# Altium footprint library 11-Pcblib_Logic.PcbLib: 7 footprints
Each footprint in its own frame and in the unit in brackets; x right, y up, seen from the top. Pads: shape width x height; smd on the part's side, far side on the other; paste and mask are expansions set on the pad; w line width, h text height; cw(c..) or ccw(c..) is an arc to the next point about the centre after c.
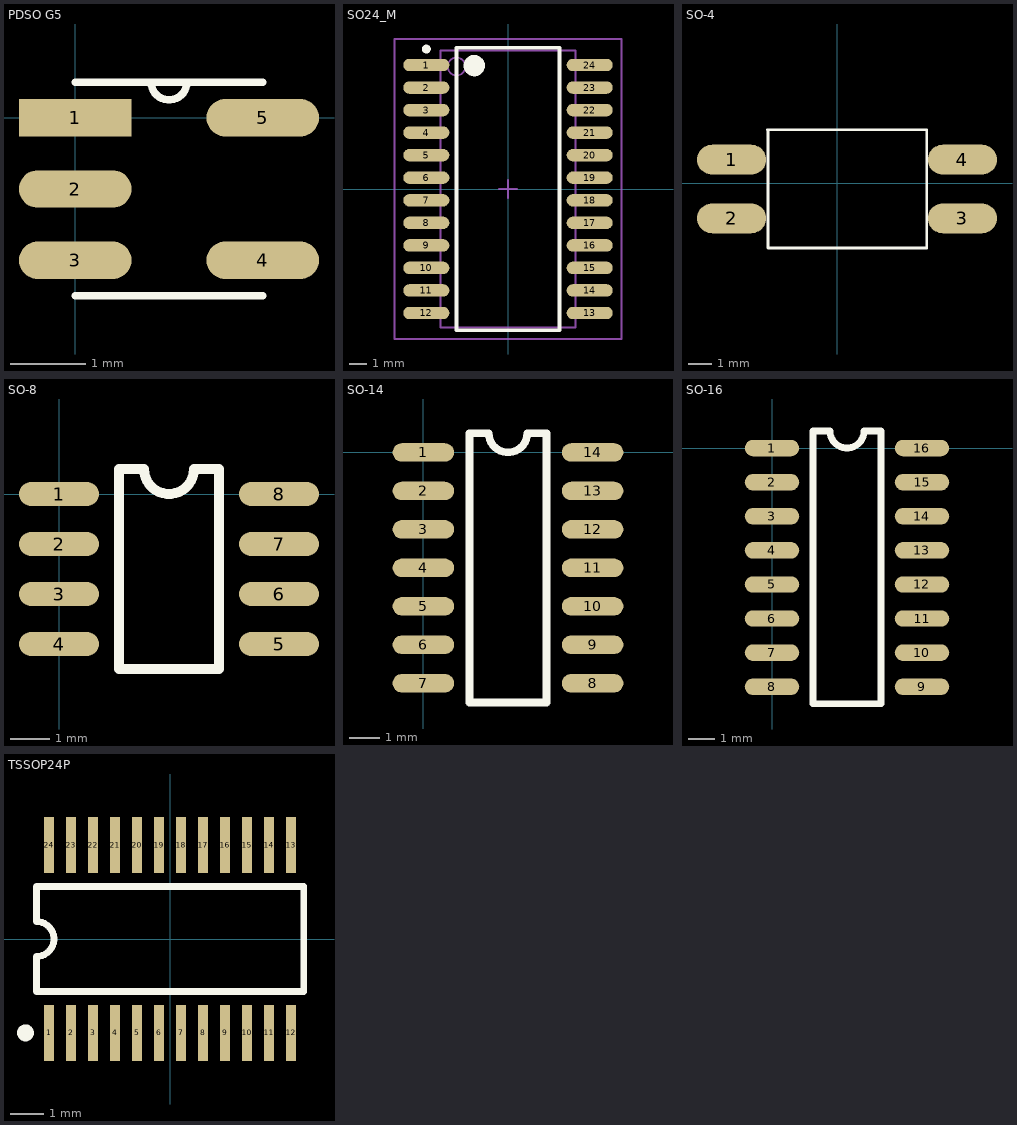
[diagram p0: the footprints below, top view; thin cyan lines are the x and y axes]

## PDSO G5 [mm]
pads (5):
  rect 1.5x0.5 smd: 1(0,0)
  oval 1.5x0.5 smd: 2(0,-0.95) 3(0,-1.9) 4(2.5,-1.9) 5(2.5,0)
Top Overlay:
  lines w0.1: 0,-2.375 2.5,-2.375 ; 0,0.475 1.485,0.475 ; 1.012,0.475 ccw(c1.25,0.475) 1.488,0.475 ; 1.015,0.475 2.5,0.475

## SO24_M [mm] "SOIC, 24-Leads, Body 15.4x7.5mm, Pitch 1.27mm, IPC Low Density"
height 2.65
pads (24):
  oval 2.6x0.7 smd: 1(-4.6,6.985) 2(-4.6,5.715) 3(-4.6,4.445) 4(-4.6,3.175) 5(-4.6,1.905) 6(-4.6,0.635) 7(-4.6,-0.635) 8(-4.6,-1.905) 9(-4.6,-3.175) 10(-4.6,-4.445) 11(-4.6,-5.715) 12(-4.6,-6.985) 13(4.6,-6.985) 14(4.6,-5.715) 15(4.6,-4.445) 16(4.6,-3.175) 17(4.6,-1.905) 18(4.6,-0.635) 19(4.6,0.635) 20(4.6,1.905) 21(4.6,3.175) 22(4.6,4.445) 23(4.6,5.715) 24(4.6,6.985)
Top Overlay:
  circle w0.25: c-4.6,7.885 r0.125
  circle w0.6: c-1.9,6.95 r0.3
  lines w0.2: -2.9,-7.95 -2.9,7.95 2.9,7.95 2.9,-7.95 -2.9,-7.95
Mechanical 13:
  circle w0.1: c-2.9,6.9 r0.5
  lines w0.1: -3.8,-7.8 -3.8,7.8 3.8,7.8 3.8,-7.8 -3.8,-7.8
Mechanical 15:
  lines w0.1: -0.5,0 0.5,0 ; 0,-0.5 0,0.5 ; -6.4,-8.45 -6.4,8.45 6.4,8.45 6.4,-8.45 -6.4,-8.45
3D body: height 2.65, standoff 0, extent -3.8,-7.8 3.8,7.8

## SO-4 [mm]
pads (4):
  oval 3x1.3 smd: 1(-4.572,1.016) 2(-4.572,-1.524) 3(5.428,-1.524) 4(5.428,1.016)
Top Overlay:
  lines w0.12: -3.024,2.317 3.887,2.317 3.887,-2.816 -2.993,-2.816 -2.993,2.286

## SO-8 [mil]
pads (8):
  oval 80x24 smd: 1(-0.28,0) 2(-0.28,-50) 3(-0.28,-100) 4(-0.28,-150) 5(219.72,-150) 6(219.72,-100) 7(219.72,-50) 8(219.72,0)
Top Overlay:
  lines w10: 59.72,-175 159.72,-175 159.72,25 134.72,25 cw(c109.72,25) 84.72,25 59.72,25 59.72,-175
3D body: height 66.93, standoff 0, extent -8.11,-171.45 228.11,21.46

## SO-14 [mil]
pads (14):
  oval 80x24 smd: 1(0,0) 2(0,-50) 3(0,-100) 4(0,-150) 5(0,-200) 6(0,-250) 7(0,-300) 8(220,-300) 9(220,-250) 10(220,-200) 11(220,-150) 12(220,-100) 13(220,-50) 14(220,0)
Top Overlay:
  lines w10: 60,-325 160,-325 160,25 135,25 cw(c110,25) 85,25 60,25 60,-325
3D body: height 63.39, standoff 0, extent -11.04,-321.26 233.05,21.26

## SO-16 [mil]
pads (16):
  oval 80x24 smd: 1(-0.28,0) 2(-0.28,-50) 3(-0.28,-100) 4(-0.28,-150) 5(-0.28,-200) 6(-0.28,-250) 7(-0.28,-300) 8(-0.28,-350) 9(219.72,-350) 10(219.72,-300) 11(219.72,-250) 12(219.72,-200) 13(219.72,-150) 14(219.72,-100) 15(219.72,-50) 16(219.72,0)
Top Overlay:
  lines w10: 59.72,-375 59.72,25 84.72,25 ccw(c109.72,25) 134.72,25 159.72,25 159.72,-375 59.72,-375
3D body: height 72.05, standoff 0, extent -6,-370.85 230.22,22.85

## TSSOP24P [mm] "Shrink Small Outline; 24 Leads; Body Width 4.4 mm; Pitch 0.65 mm"
height 1.2
pads (24):
  rect 0.3x1.65 smd: 1(-3.575,-2.775) 2(-2.925,-2.775) 3(-2.275,-2.775) 4(-1.625,-2.775) 5(-0.975,-2.775) 6(-0.325,-2.775) 7(0.325,-2.775) 8(0.975,-2.775) 9(1.625,-2.775) 10(2.275,-2.775) 11(2.925,-2.775) 12(3.575,-2.775) 13(3.575,2.775) 14(2.925,2.775) 15(2.275,2.775) 16(1.625,2.775) 17(0.975,2.775) 18(0.325,2.775) 19(-0.325,2.775) 20(-0.975,2.775) 21(-1.625,2.775) 22(-2.275,2.775) 23(-2.925,2.775) 24(-3.575,2.775)
Top Overlay:
  circle w0.25: c-4.275,-2.775 r0.125
  lines w0.2: -3.95,-1.55 3.95,-1.55 3.95,1.55 -3.95,1.55 -3.95,0.517 cw(c-3.95,0) -3.95,-0.517 -3.95,-1.55